# EAGLE library part 2-2-150 (library 50w-modular-psu)
Power Transformer Turns rate: 2/2/150/NC
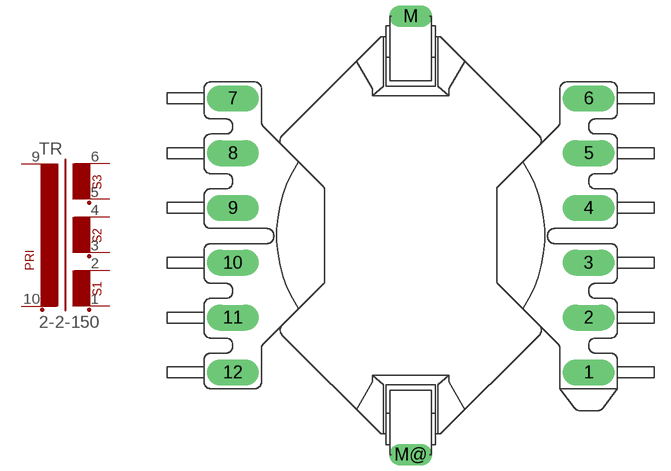
[diagram p1: symbol with the pads of RM12T1; footprint RM12T1]

Designator prefix TR

## 2-2-150  [RM12T1]
1  3  pas
2  4  pas
3  5  pas
4  6  pas
5  7  pas
6  8  pas
9  1  pas
10  2  pas

## Footprint RM12T1 (pad centres in mm)
TRANSFORMER
drill 1.6 long: 1 16.51,-12.7; 2 16.51,-7.62; 3 16.51,-2.54; 4 16.51,2.54; 5 16.51,7.62; 6 16.51,12.7; 7 -16.51,12.7; 8 -16.51,7.62; 9 -16.51,2.54; 10 -16.51,-2.54; 11 -16.51,-7.62; 12 -16.51,-12.7
drill 1.321 long: M 0,20.32; M@ 0,-20.32